# Altium schematic symbol library WE-OLEE.SchLib: 21 symbols
Pins are listed as number, name and electrical type; pins without a type are passive.

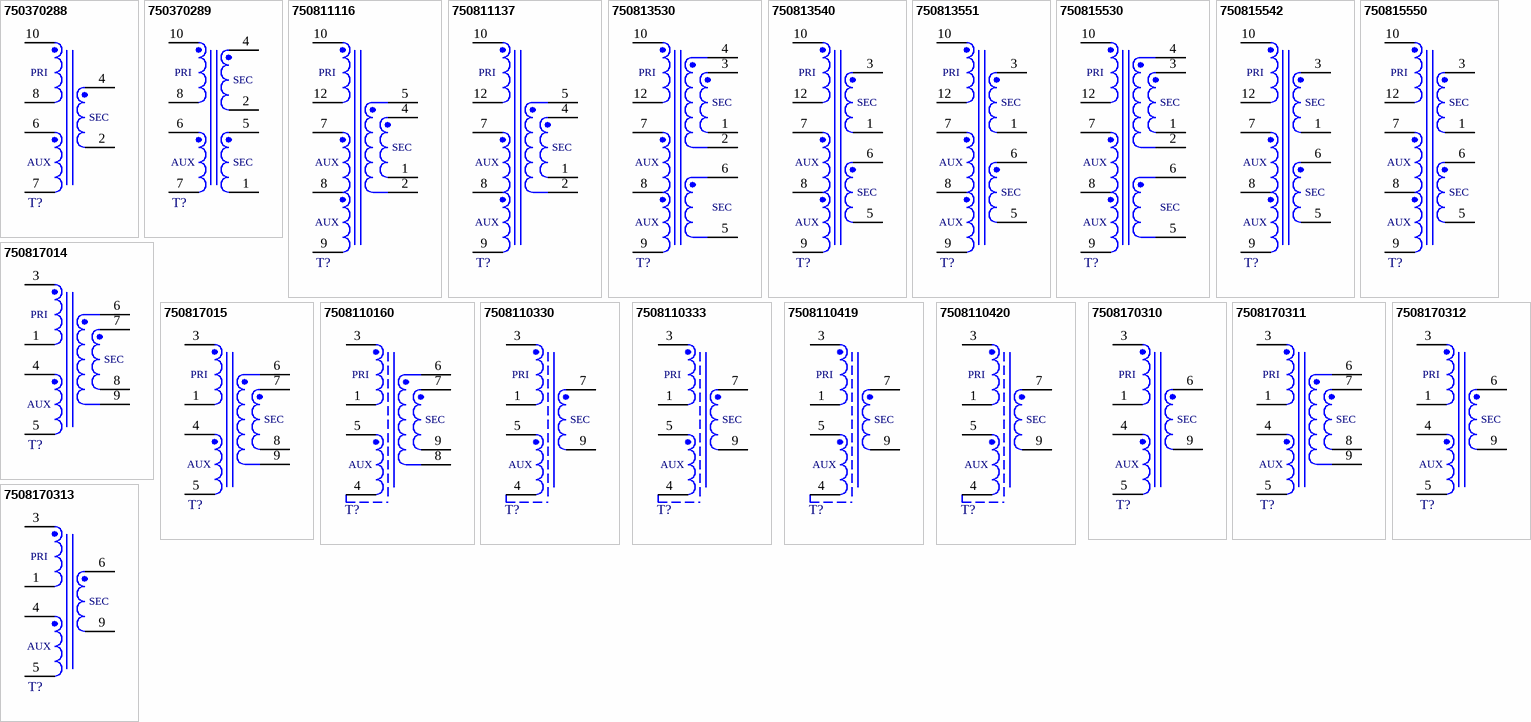
[diagram p0: symbols 750370288 to 7508170313]

## 750370288
designator T?, comment Ui = 85 - 265V, Uo1 = 5V / 1A  (value not drawn)
WE-OLEE EE-Style Offline Flyback Transformer, EE20/10/6, THT, Ui = 85 - 265V, Uo1 = 5V / 1A; Manufacturer Part Number: 750370288; Manufacturer: Wurth Elektronik; Auxiliary Voltage: 17V; Inductance: 1.7mH; Input Voltage: 85 - 265VAC; Insulation Test Voltage: 3000VAC; Saturation Current: 1.05A; Switching Frequency: 65kHz; Turns Ratio: 16.88:1:1.88; Category: Offline Flyback Transformers; Match Code: WE-OLEE; ComponentLink1Description: Website Link; ComponentLink1URL: https://www.we-online.com/redexpert/article/750370288?ad; ComponentLink2Description: Datasheet Link; ComponentLink2URL: https://www.we-online.com/redexpert/spec/750370288?ad; Mount: Through Hole; Operating Temperature Max: 125°C; Operating Temperature Min: -40°C; Packaging: Tray; Case/Size Code: EE20/10/6; Length: 14.6mm; Width: 22.25mm; Height: 23.24mm; Output Current 1: 1A; Output Voltage 1: 5V
footprint WE-OLEE_EE20/10/6
pins: 2, 4, 6, 7, 8, 10
text: PRI; SEC; AUX

## 750370289
designator T?, comment Ui = 85 - 265V, Uo1 = 5V / 1A, Uo2 = 5V / 1A  (value not drawn)
WE-OLEE EE-Style Offline Flyback Transformer, EE20/10/6, THT, Ui = 85 - 265V, Uo1 = 5V / 1A, Uo2 = 5V / 1A; Manufacturer Part Number: 750370289; Manufacturer: Wurth Elektronik; Auxiliary Voltage: 10V; Inductance: 1.7mH; Input Voltage: 85 - 265VAC; Insulation Test Voltage: 3000VAC; Saturation Current: 0.8A; Switching Frequency: 65kHz; Turns Ratio: 15:1:1:2.25; Category: Offline Flyback Transformers; Match Code: WE-OLEE; ComponentLink1Description: Website Link; ComponentLink1URL: https://www.we-online.com/redexpert/article/750370289?ad; ComponentLink2Description: Datasheet Link; ComponentLink2URL: https://www.we-online.com/redexpert/spec/750370289?ad; Mount: Through Hole; Operating Temperature Max: 125°C; Operating Temperature Min: -40°C; Packaging: Tray; Case/Size Code: EE20/10/6; Length: 14.6mm; Width: 22.25mm; Height: 23.24mm; Output Current 1: 1A; Output Current 2: 1A; Output Voltage 1: 5V; Output Voltage 2: 5V
footprint WE-OLEE_EE20/10/6
pins: 1, 2, 4, 5, 6, 7, 8, 10
text: PRI; SEC; AUX

## 750811116
designator T?, comment Ui = 85 - 265V, Uo1 = 5V / 2.55A  (value not drawn)
WE-OLEE EE-Style Offline Flyback Transformer, EE16/8/5, SMT, Ui = 85 - 265V, Uo1 = 5V / 2.55A; Manufacturer Part Number: 750811116; Manufacturer: Wurth Elektronik; Auxiliary Voltage: 20V; Inductance: 1.31mH; Input Voltage: 85 - 265VAC; Insulation Test Voltage: 3000VAC; Saturation Current: 0.8A; Switching Frequency: 80 - 200kHz; Turns Ratio: 23.3:1:3.8; Category: Offline Flyback Transformers; Match Code: WE-OLEE; ComponentLink1Description: Website Link; ComponentLink1URL: https://www.we-online.com/redexpert/article/750811116?ad; ComponentLink2Description: Datasheet Link; ComponentLink2URL: https://www.we-online.com/redexpert/spec/750811116?ad; Mount: Surface Mount; Operating Temperature Max: 125°C; Operating Temperature Min: -40°C; Packaging: Tape and Reel; Case/Size Code: EE16/8/5; Length: 26.9mm; Width: 17.78mm; Height: 13.8mm; Output Current 1: 2.55A; Output Voltage 1: 5V
footprint WE-OLEE_EE16/8/5
pins: 1, 2, 4, 5, 7, 8, 9, 10, 12
text: PRI; SEC; AUX

## 750811137
designator T?, comment Ui = 85 - 265V, Uo1 = 12V / 1.05A  (value not drawn)
WE-OLEE EE-Style Offline Flyback Transformer, EE16/8/5, SMT, Ui = 85 - 265V, Uo1 = 12V / 1.05A; Manufacturer Part Number: 750811137; Manufacturer: Wurth Elektronik; Auxiliary Voltage: 20V; Inductance: 1.39mH; Input Voltage: 85 - 265VAC; Insulation Test Voltage: 3000VAC; Saturation Current: 0.74A; Switching Frequency: 80 - 200kHz; Turns Ratio: 9.7:1:1.57; Category: Offline Flyback Transformers; Match Code: WE-OLEE; ComponentLink1Description: Website Link; ComponentLink1URL: https://www.we-online.com/redexpert/article/750811137?ad; ComponentLink2Description: Datasheet Link; ComponentLink2URL: https://www.we-online.com/redexpert/spec/750811137?ad; Mount: Surface Mount; Operating Temperature Max: 125°C; Operating Temperature Min: -40°C; Packaging: Tape and Reel; Case/Size Code: EE16/8/5; Length: 26.9mm; Width: 17.78mm; Height: 13.8mm; Output Current 1: 1.05A; Output Voltage 1: 12V
footprint WE-OLEE_EE16/8/5
pins: 1, 2, 4, 5, 7, 8, 9, 10, 12
text: PRI; SEC; AUX

## 750813530
designator T?, comment Ui = 85 - 130V, Uo1 = 15V / 0.535A, Uo2 = 6V / 0.535A  (value not drawn)
WE-OLEE EE-Style Offline Flyback Transformer, EE16/8/5, SMT, Ui = 85 - 130V, Uo1 = 15V / 0.535A, Uo2 = 6V / 0.535A; Manufacturer Part Number: 750813530; Manufacturer: Wurth Elektronik; Auxiliary Voltage: 20V; Inductance: 1.5mH; Input Voltage: 85 - 130VAC; Insulation Test Voltage: 3000VAC; Saturation Current: 0.62A; Switching Frequency: 80 - 200kHz; Turns Ratio: 21.7:2.3:1:2.7; Category: Offline Flyback Transformers; Match Code: WE-OLEE; ComponentLink1Description: Website Link; ComponentLink1URL: https://www.we-online.com/redexpert/article/750813530?ad; ComponentLink2Description: Datasheet Link; ComponentLink2URL: https://www.we-online.com/redexpert/spec/750813530?ad; Mount: Surface Mount; Operating Temperature Max: 125°C; Operating Temperature Min: -40°C; Packaging: Tape and Reel; Case/Size Code: EE16/8/5; Length: 26.9mm; Width: 17.78mm; Height: 13.8mm; Output Current 1: 0.535A; Output Current 2: 0.535A; Output Voltage 1: 15V; Output Voltage 2: 6V
footprint WE-OLEE_EE16/8/5
pins: 1, 2, 3, 4, 5, 6, 7, 8, 9, 10, 12
text: PRI; SEC; AUX

## 750813540
designator T?, comment Ui = 85 - 130V, Uo1 = 25V / 0.4A, Uo2 = 6V / 0.4A  (value not drawn)
WE-OLEE EE-Style Offline Flyback Transformer, EE16/8/5, SMT, Ui = 85 - 130V, Uo1 = 25V / 0.4A, Uo2 = 6V / 0.4A; Manufacturer Part Number: 750813540; Manufacturer: Wurth Elektronik; Auxiliary Voltage: 20V; Inductance: 1.25mH; Input Voltage: 85 - 130VAC; Insulation Test Voltage: 3000VAC; Saturation Current: 0.8A; Switching Frequency: 80 - 200kHz; Turns Ratio: 21.3:3.8:1:3.2; Category: Offline Flyback Transformers; Match Code: WE-OLEE; ComponentLink1Description: Website Link; ComponentLink1URL: https://www.we-online.com/redexpert/article/750813540?ad; ComponentLink2Description: Datasheet Link; ComponentLink2URL: https://www.we-online.com/redexpert/spec/750813540?ad; Mount: Surface Mount; Operating Temperature Max: 125°C; Operating Temperature Min: -40°C; Packaging: Tape and Reel; Case/Size Code: EE16/8/5; Length: 26.9mm; Width: 17.78mm; Height: 13.8mm; Output Current 1: 0.4A; Output Current 2: 0.4A; Output Voltage 1: 25V; Output Voltage 2: 6V
footprint WE-OLEE_EE16/8/5
pins: 1, 3, 5, 6, 7, 8, 9, 10, 12
text: PRI; SEC; AUX

## 750813551
designator T?, comment Ui = 85 - 130V, Uo1 = 35V / 0.285A, Uo2 = 6V / 0.285A  (value not drawn)
WE-OLEE EE-Style Offline Flyback Transformer, EE16/8/5, SMT, Ui = 85 - 130V, Uo1 = 35V / 0.285A, Uo2 = 6V / 0.285A; Manufacturer Part Number: 750813551; Manufacturer: Wurth Elektronik; Auxiliary Voltage: 20V; Inductance: 1.5mH; Input Voltage: 85 - 130VAC; Insulation Test Voltage: 3000VAC; Saturation Current: 0.62A; Switching Frequency: 80 - 200kHz; Turns Ratio: 21.3:5.3:1:3.2; Category: Offline Flyback Transformers; Match Code: WE-OLEE; ComponentLink1Description: Website Link; ComponentLink1URL: https://www.we-online.com/redexpert/article/750813551?ad; ComponentLink2Description: Datasheet Link; ComponentLink2URL: https://www.we-online.com/redexpert/spec/750813551?ad; Mount: Surface Mount; Operating Temperature Max: 125°C; Operating Temperature Min: -40°C; Packaging: Tape and Reel; Case/Size Code: EE16/8/5; Length: 26.9mm; Width: 17.78mm; Height: 13.8mm; Output Current 1: 0.285A; Output Current 2: 0.285A; Output Voltage 1: 35V; Output Voltage 2: 6V
footprint WE-OLEE_EE16/8/5
pins: 1, 3, 5, 6, 7, 8, 9, 10, 12
text: PRI; SEC; AUX

## 750815530
designator T?, comment Ui = 195 - 265V, Uo1 = 15V / 0.52A, Uo2 = 6V / 0.52A  (value not drawn)
WE-OLEE EE-Style Offline Flyback Transformer, EE16/8/5, SMT, Ui = 195 - 265V, Uo1 = 15V / 0.52A, Uo2 = 6V / 0.52A; Manufacturer Part Number: 750815530; Manufacturer: Wurth Elektronik; Auxiliary Voltage: 20V; Inductance: 8mH; Input Voltage: 195 - 265VAC; Insulation Test Voltage: 3000VAC; Saturation Current: 0.27A; Switching Frequency: 80 - 200kHz; Turns Ratio: 48:2.3:1:3.2; Category: Offline Flyback Transformers; Match Code: WE-OLEE; ComponentLink1Description: Website Link; ComponentLink1URL: https://www.we-online.com/redexpert/article/750815530?ad; ComponentLink2Description: Datasheet Link; ComponentLink2URL: https://www.we-online.com/redexpert/spec/750815530?ad; Mount: Surface Mount; Operating Temperature Max: 125°C; Operating Temperature Min: -40°C; Packaging: Tape and Reel; Case/Size Code: EE16/8/5; Length: 26.9mm; Width: 17.78mm; Height: 13.8mm; Output Current 1: 0.52A; Output Current 2: 0.52A; Output Voltage 1: 15V; Output Voltage 2: 6V
footprint WE-OLEE_EE16/8/5
pins: 1, 2, 3, 4, 5, 6, 7, 8, 9, 10, 12
text: PRI; SEC; AUX

## 750815542
designator T?, comment Ui = 195 - 265V, Uo1 = 25V / 0.5A, Uo2 = 6V / 0.5A  (value not drawn)
WE-OLEE EE-Style Offline Flyback Transformer, EE16/8/5, SMT, Ui = 195 - 265V, Uo1 = 25V / 0.5A, Uo2 = 6V / 0.5A; Manufacturer Part Number: 750815542; Manufacturer: Wurth Elektronik; Auxiliary Voltage: 20V; Inductance: 5mH; Input Voltage: 195 - 265VAC; Insulation Test Voltage: 3000VAC; Saturation Current: 0.39A; Switching Frequency: 80 - 200kHz; Turns Ratio: 51:3.8:1:3.2; Category: Offline Flyback Transformers; Match Code: WE-OLEE; ComponentLink1Description: Website Link; ComponentLink1URL: https://www.we-online.com/redexpert/article/750815542?ad; ComponentLink2Description: Datasheet Link; ComponentLink2URL: https://www.we-online.com/redexpert/spec/750815542?ad; Mount: Surface Mount; Operating Temperature Max: 125°C; Operating Temperature Min: -40°C; Packaging: Tape and Reel; Case/Size Code: EE16/8/5; Length: 26.9mm; Width: 17.78mm; Height: 13.8mm; Output Current 1: 0.5A; Output Current 2: 0.5A; Output Voltage 1: 25V; Output Voltage 2: 6V
footprint WE-OLEE_EE16/8/5
pins: 1, 3, 5, 6, 7, 8, 9, 10, 12
text: PRI; SEC; AUX

## 750815550
designator T?, comment Ui = 195 - 265V, Uo1 = 35V / 0.325A, Uo2 = 6V / 0.325A  (value not drawn)
WE-OLEE EE-Style Offline Flyback Transformer, EE16/8/5, SMT, Ui = 195 - 265V, Uo1 = 35V / 0.325A, Uo2 = 6V / 0.325A; Manufacturer Part Number: 750815550; Manufacturer: Wurth Elektronik; Auxiliary Voltage: 20V; Inductance: 6mH; Input Voltage: 195 - 265VAC; Insulation Test Voltage: 3000VAC; Saturation Current: 0.33A; Switching Frequency: 80 - 200kHz; Turns Ratio: 52:5.6:1:3.4; Category: Offline Flyback Transformers; Match Code: WE-OLEE; ComponentLink1Description: Website Link; ComponentLink1URL: https://www.we-online.com/redexpert/article/750815550?ad; ComponentLink2Description: Datasheet Link; ComponentLink2URL: https://www.we-online.com/redexpert/spec/750815550?ad; Mount: Surface Mount; Operating Temperature Max: 125°C; Operating Temperature Min: -40°C; Packaging: Tape and Reel; Case/Size Code: EE16/8/5; Length: 26.9mm; Width: 17.78mm; Height: 13.8mm; Output Current 1: 0.325A; Output Current 2: 0.325A; Output Voltage 1: 35V; Output Voltage 2: 6V
footprint WE-OLEE_EE16/8/5
pins: 1, 3, 5, 6, 7, 8, 9, 10, 12
text: PRI; SEC; AUX

## 750817014
designator T?, comment Ui = 55 - 265V, Uo1 = 5V / 0.7A  (value not drawn)
WE-OLEE EE-Style Offline Flyback Transformer, EE13/7/4, SMT, Ui = 55 - 265V, Uo1 = 5V / 0.7A; Manufacturer Part Number: 750817014; Manufacturer: Wurth Elektronik; Auxiliary Voltage: 16V; Inductance: 1.84mH; Input Voltage: 55 - 265VAC; Insulation Test Voltage: 3000VAC; Saturation Current: 0.375A; Switching Frequency: 50kHz; Turns Ratio: 13:1:3; Category: Offline Flyback Transformers; Match Code: WE-OLEE; ComponentLink1Description: Website Link; ComponentLink1URL: https://www.we-online.com/redexpert/article/750817014?ad; ComponentLink2Description: Datasheet Link; ComponentLink2URL: https://www.we-online.com/redexpert/spec/750817014?ad; Mount: Surface Mount; Operating Temperature Max: 125°C; Operating Temperature Min: -40°C; Packaging: Tape and Reel; Case/Size Code: EE13/7/4; Length: 23.9mm; Width: 13.8mm; Height: 11mm; Output Current 1: 0.7A; Output Voltage 1: 5V
footprint WE-OLEE_EE13/7/4
pins: 1, 3, 4, 5, 6, 7, 8, 9
text: PRI; SEC; AUX

## 750817015
designator T?, comment Ui = 55 - 265V, Uo1 = 5V / 0.9A  (value not drawn)
WE-OLEE EE-Style Offline Flyback Transformer, EE13/7/4, SMT, Ui = 55 - 265V, Uo1 = 5V / 0.9A; Manufacturer Part Number: 750817015; Manufacturer: Wurth Elektronik; Auxiliary Voltage: 16V; Inductance: 0.491mH; Input Voltage: 55 - 265VAC; Insulation Test Voltage: 3000VAC; Saturation Current: 0.875A; Switching Frequency: 150kHz; Turns Ratio: 13.14:1:3; Category: Offline Flyback Transformers; Match Code: WE-OLEE; ComponentLink1Description: Website Link; ComponentLink1URL: https://www.we-online.com/redexpert/article/750817015?ad; ComponentLink2Description: Datasheet Link; ComponentLink2URL: https://www.we-online.com/redexpert/spec/750817015?ad; Mount: Surface Mount; Operating Temperature Max: 125°C; Operating Temperature Min: -40°C; Packaging: Tape and Reel; Case/Size Code: EE13/7/4; Length: 23.9mm; Width: 13.8mm; Height: 11mm; Output Current 1: 0.9A; Output Voltage 1: 5V
footprint WE-OLEE_EE13/7/4
pins: 1, 3, 4, 5, 6, 7, 8, 9
text: PRI; SEC; AUX

## 7508110160
designator T?, comment Ui = 50 - 265V, Uo1 = 5V / 1A  (value not drawn)
WE-OLEE EE-Style Offline Flyback Transformer, EE13/6/6, THT, Ui = 50 - 265V, Uo1 = 5V / 1A; Manufacturer Part Number: 7508110160; Manufacturer: Wurth Elektronik; Auxiliary Voltage: 8.75V; Inductance: 1.59mH; Input Voltage: 50 - 265VAC; Insulation Test Voltage: 3600VAC; Saturation Current: 0.48A; Switching Frequency: 45 - 70kHz; Turns Ratio: 15:1:1.75; Category: Offline Flyback Transformers; Match Code: WE-OLEE; ComponentLink1Description: Website Link; ComponentLink1URL: https://www.we-online.com/redexpert/article/7508110160?ad; ComponentLink2Description: Datasheet Link; ComponentLink2URL: https://www.we-online.com/redexpert/spec/7508110160?ad; Mount: Through Hole; Operating Temperature Max: 125°C; Operating Temperature Min: -40°C; Packaging: Tray; Case/Size Code: EE13/6/6; Length: 20.45mm; Width: 14.2mm; Height: 14.6mm; Output Current 1: 1A; Output Voltage 1: 5V
footprint WE-OLEE_EE13/6/6
pins: 1, 3, 4, 5, 6, 7, 8, 9
text: PRI; SEC; AUX

## 7508110330
designator T?, comment Ui = 55 - 265V, Uo1 = 12V / 0.45A  (value not drawn)
WE-OLEE EE-Style Offline Flyback Transformer, EE13/6/6, THT, Ui = 55 - 265V, Uo1 = 12V / 0.45A; Manufacturer Part Number: 7508110330; Manufacturer: Wurth Elektronik; Auxiliary Voltage: 8.7V; Inductance: 1.88mH; Input Voltage: 55 - 265VAC; Insulation Test Voltage: 3600VAC; Saturation Current: 0.36A; Switching Frequency: 50 - 60kHz; Turns Ratio: 8.71:1.35:1; Category: Offline Flyback Transformers; Match Code: WE-OLEE; ComponentLink1Description: Website Link; ComponentLink1URL: https://www.we-online.com/redexpert/article/7508110330?ad; ComponentLink2Description: Datasheet Link; ComponentLink2URL: https://www.we-online.com/redexpert/spec/7508110330?ad; Mount: Through Hole; Operating Temperature Max: 125°C; Operating Temperature Min: -40°C; Packaging: Tray; Case/Size Code: EE13/6/6; Length: 20.45mm; Width: 14.2mm; Height: 14.6mm; Output Current 1: 0.45A; Output Voltage 1: 12V
footprint WE-OLEE_EE13/6/6
pins: 1, 3, 4, 5, 7, 9
text: PRI; SEC; AUX

## 7508110333
designator T?, comment Ui = 55 - 265V, Uo1 = 15V / 0.32A  (value not drawn)
WE-OLEE EE-Style Offline Flyback Transformer, EE13/6/6, THT, Ui = 55 - 265V, Uo1 = 15V / 0.32A; Manufacturer Part Number: 7508110333; Manufacturer: Wurth Elektronik; Auxiliary Voltage: 20V; Inductance: 1.88mH; Input Voltage: 55 - 265VAC; Insulation Test Voltage: 3600VAC; Saturation Current: 0.36A; Switching Frequency: 50 - 65kHz; Turns Ratio: 5:1:1.33; Category: Offline Flyback Transformers; Match Code: WE-OLEE; ComponentLink1Description: Website Link; ComponentLink1URL: https://www.we-online.com/redexpert/article/7508110333?ad; ComponentLink2Description: Datasheet Link; ComponentLink2URL: https://www.we-online.com/redexpert/spec/7508110333?ad; Mount: Through Hole; Operating Temperature Max: 125°C; Operating Temperature Min: -40°C; Packaging: Tray; Case/Size Code: EE13/6/6; Length: 20.45mm; Width: 14.2mm; Height: 14.6mm; Output Current 1: 0.32A; Output Voltage 1: 15V
footprint WE-OLEE_EE13/6/6
pins: 1, 3, 4, 5, 7, 9
text: PRI; SEC; AUX

## 7508110419
designator T?, comment Ui = 55 - 265V, Uo1 = 24V / 0.17A  (value not drawn)
WE-OLEE EE-Style Offline Flyback Transformer, EE13/6/6, THT, Ui = 55 - 265V, Uo1 = 24V / 0.17A; Manufacturer Part Number: 7508110419; Manufacturer: Wurth Elektronik; Auxiliary Voltage: 20V; Inductance: 2.25mH; Input Voltage: 55 - 265VAC; Insulation Test Voltage: 3600VAC; Saturation Current: 0.26A; Switching Frequency: 50 - 65kHz; Turns Ratio: 3.8:1.19:1; Category: Offline Flyback Transformers; Match Code: WE-OLEE; ComponentLink1Description: Website Link; ComponentLink1URL: https://www.we-online.com/redexpert/article/7508110419?ad; ComponentLink2Description: Datasheet Link; ComponentLink2URL: https://www.we-online.com/redexpert/spec/7508110419?ad; Mount: Through Hole; Operating Temperature Max: 125°C; Operating Temperature Min: -40°C; Packaging: Tray; Case/Size Code: EE13/6/6; Length: 20.45mm; Width: 14.2mm; Height: 14.6mm; Output Current 1: 0.17A; Output Voltage 1: 24V
footprint WE-OLEE_EE13/6/6
pins: 1, 3, 4, 5, 7, 9
text: PRI; SEC; AUX

## 7508110420
designator T?, comment Ui = 55 - 265V, Uo1 = 30V / 0.16A  (value not drawn)
WE-OLEE EE-Style Offline Flyback Transformer, EE13/6/6, THT, Ui = 55 - 265V, Uo1 = 30V / 0.16A; Manufacturer Part Number: 7508110420; Manufacturer: Wurth Elektronik; Auxiliary Voltage: 20V; Inductance: 1.95mH; Input Voltage: 55 - 265VAC; Insulation Test Voltage: 3600VAC; Saturation Current: 0.32A; Switching Frequency: 50 - 65kHz; Turns Ratio: 3.8:1.48:1; Category: Offline Flyback Transformers; Match Code: WE-OLEE; ComponentLink1Description: Website Link; ComponentLink1URL: https://www.we-online.com/redexpert/article/7508110420?ad; ComponentLink2Description: Datasheet Link; ComponentLink2URL: https://www.we-online.com/redexpert/spec/7508110420?ad; Mount: Through Hole; Operating Temperature Max: 125°C; Operating Temperature Min: -40°C; Packaging: Tray; Case/Size Code: EE13/6/6; Length: 20.45mm; Width: 14.2mm; Height: 14.6mm; Output Current 1: 0.16A; Output Voltage 1: 30V
footprint WE-OLEE_EE13/6/6
pins: 1, 3, 4, 5, 7, 9
text: PRI; SEC; AUX

## 7508170310
designator T?, comment Ui = 55 - 265V, Uo1 = 12V / 0.3A  (value not drawn)
WE-OLEE EE-Style Offline Flyback Transformer, EE13/7/4, SMT, Ui = 55 - 265V, Uo1 = 12V / 0.3A; Manufacturer Part Number: 7508170310; Manufacturer: Wurth Elektronik; Auxiliary Voltage: 16V; Inductance: 1.99mH; Input Voltage: 55 - 265VAC; Insulation Test Voltage: 3000VAC; Saturation Current: 0.365A; Switching Frequency: 50kHz; Turns Ratio: 5.79:1:1.32; Category: Offline Flyback Transformers; Match Code: WE-OLEE; ComponentLink1Description: Website Link; ComponentLink1URL: https://www.we-online.com/redexpert/article/7508170310?ad; ComponentLink2Description: Datasheet Link; ComponentLink2URL: https://www.we-online.com/redexpert/spec/7508170310?ad; Mount: Surface Mount; Operating Temperature Max: 125°C; Operating Temperature Min: -40°C; Packaging: Tape and Reel; Case/Size Code: EE13/7/4; Length: 23.9mm; Width: 13.8mm; Height: 11mm; Output Current 1: 0.3A; Output Voltage 1: 12V
footprint WE-OLEE_EE13/7/4
pins: 1, 3, 4, 5, 6, 9
text: PRI; SEC; AUX

## 7508170311
designator T?, comment Ui = 55 - 265V, Uo1 = 12V / 0.42A  (value not drawn)
WE-OLEE EE-Style Offline Flyback Transformer, EE13/7/4, SMT, Ui = 55 - 265V, Uo1 = 12V / 0.42A; Manufacturer Part Number: 7508170311; Manufacturer: Wurth Elektronik; Auxiliary Voltage: 16V; Inductance: 0.491mH; Input Voltage: 55 - 265VAC; Insulation Test Voltage: 3000VAC; Saturation Current: 0.86A; Switching Frequency: 150kHz; Turns Ratio: 5.75:1:1.31; Category: Offline Flyback Transformers; Match Code: WE-OLEE; ComponentLink1Description: Website Link; ComponentLink1URL: https://www.we-online.com/redexpert/article/7508170311?ad; ComponentLink2Description: Datasheet Link; ComponentLink2URL: https://www.we-online.com/redexpert/spec/7508170311?ad; Mount: Surface Mount; Operating Temperature Max: 125°C; Operating Temperature Min: -40°C; Packaging: Tape and Reel; Case/Size Code: EE13/7/4; Length: 23.9mm; Width: 13.8mm; Height: 11mm; Output Current 1: 0.42A; Output Voltage 1: 12V
footprint WE-OLEE_EE13/7/4
pins: 1, 3, 4, 5, 6, 7, 8, 9
text: PRI; SEC; AUX

## 7508170312
designator T?, comment Ui = 55 - 265V, Uo1 = 15V / 0.21A  (value not drawn)
WE-OLEE EE-Style Offline Flyback Transformer, EE13/7/4, SMT, Ui = 55 - 265V, Uo1 = 15V / 0.21A; Manufacturer Part Number: 7508170312; Manufacturer: Wurth Elektronik; Auxiliary Voltage: 16V; Inductance: 1.99mH; Input Voltage: 55 - 265VAC; Insulation Test Voltage: 3000VAC; Saturation Current: 0.36A; Switching Frequency: 50kHz; Turns Ratio: 4.63:1:1.06; Category: Offline Flyback Transformers; Match Code: WE-OLEE; ComponentLink1Description: Website Link; ComponentLink1URL: https://www.we-online.com/redexpert/article/7508170312?ad; ComponentLink2Description: Datasheet Link; ComponentLink2URL: https://www.we-online.com/redexpert/spec/7508170312?ad; Mount: Surface Mount; Operating Temperature Max: 125°C; Operating Temperature Min: -40°C; Packaging: Tape and Reel; Case/Size Code: EE13/7/4; Length: 23.9mm; Width: 13.8mm; Height: 11mm; Output Current 1: 0.21A; Output Voltage 1: 15V
footprint WE-OLEE_EE13/7/4
pins: 1, 3, 4, 5, 6, 9
text: PRI; SEC; AUX

## 7508170313
designator T?, comment Ui = 55 - 265V, Uo1 = 15V / 0.31A  (value not drawn)
WE-OLEE EE-Style Offline Flyback Transformer, EE13/7/4, SMT, Ui = 55 - 265V, Uo1 = 15V / 0.31A; Manufacturer Part Number: 7508170313; Manufacturer: Wurth Elektronik; Auxiliary Voltage: 16V; Inductance: 0.592mH; Input Voltage: 55 - 265VAC; Insulation Test Voltage: 3000VAC; Saturation Current: 0.725A; Switching Frequency: 150kHz; Turns Ratio: 4.6:1:1.05; Category: Offline Flyback Transformers; Match Code: WE-OLEE; ComponentLink1Description: Website Link; ComponentLink1URL: https://www.we-online.com/redexpert/article/7508170313?ad; ComponentLink2Description: Datasheet Link; ComponentLink2URL: https://www.we-online.com/redexpert/spec/7508170313?ad; Mount: Surface Mount; Operating Temperature Max: 125°C; Operating Temperature Min: -40°C; Packaging: Tape and Reel; Case/Size Code: EE13/7/4; Length: 23.9mm; Width: 13.8mm; Height: 11mm; Output Current 1: 0.31A; Output Voltage 1: 15V
footprint WE-OLEE_EE13/7/4
pins: 1, 3, 4, 5, 6, 9
text: PRI; SEC; AUX